# Altium footprint library Diod.PcbLib: 392 footprints (part 11 of 25)
Each footprint in its own frame and in the unit in brackets; x right, y up, seen from the top. Pads: shape width x height; smd on the part's side, far side on the other; paste and mask are expansions set on the pad; w line width, h text height; cw(c..) or ccw(c..) is an arc to the next point about the centre after c.
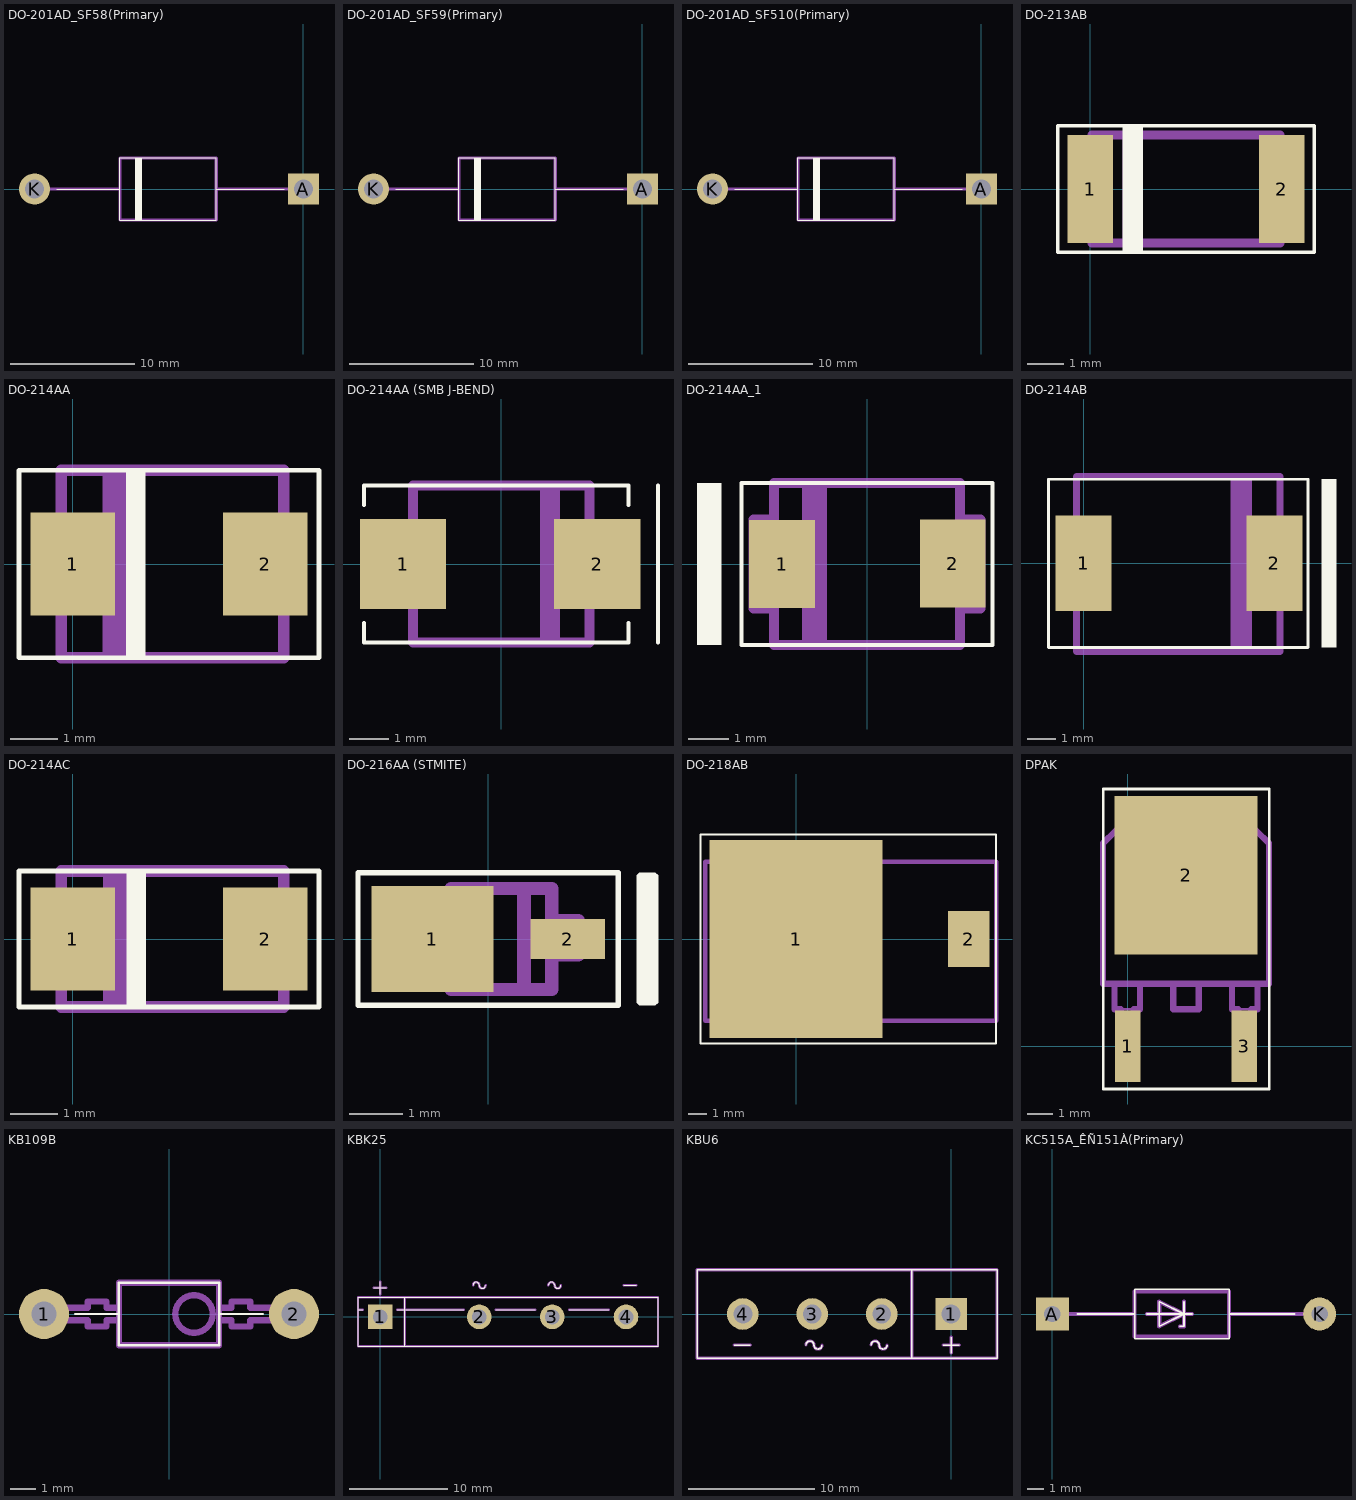
[diagram p10: the footprints below, top view; thin cyan lines are the x and y axes]

## DO-201AD_SF58(Primary) [mm]
pads (2):
  rect 2.5x2.5 hole 1.5: A(0,0)
  round 2.5 hole 1.5: K(-21.6,0)
Top Overlay:
  region: -13.5,2.5 -13.5,-2.5 -13,-2.5 -13,2.5
  lines w0.1: -19.812,0 -14.75,0 ; -7,0 -1.524,0 ; -14.75,0 -14.75,2.5 -7,2.5 -7,-2.5 -14.75,-2.5 -14.75,0
Mechanical 1:
  region: -13.5,2.5 -13.5,-2.5 -13,-2.5 -13,2.5
  lines w0.25: -21.6,0 -14.75,0 ; -7,0 0,0 ; -14.75,0 -14.75,2.5 -7,2.5 -7,-2.5 -14.75,-2.5 -14.75,0

## DO-201AD_SF59(Primary) [mm]
pads (2):
  rect 2.5x2.5 hole 1.5: A(0,0)
  round 2.5 hole 1.5: K(-21.6,0)
Top Overlay:
  region: -13.5,2.5 -13.5,-2.5 -13,-2.5 -13,2.5
  lines w0.1: -19.812,0 -14.75,0 ; -7,0 -1.524,0 ; -14.75,0 -14.75,2.5 -7,2.5 -7,-2.5 -14.75,-2.5 -14.75,0
Mechanical 1:
  region: -13.5,2.5 -13.5,-2.5 -13,-2.5 -13,2.5
  lines w0.25: -21.6,0 -14.75,0 ; -7,0 0,0 ; -14.75,0 -14.75,2.5 -7,2.5 -7,-2.5 -14.75,-2.5 -14.75,0

## DO-201AD_SF510(Primary) [mm]
pads (2):
  rect 2.5x2.5 hole 1.5: A(0,0)
  round 2.5 hole 1.5: K(-21.6,0)
Top Overlay:
  region: -13.5,2.5 -13.5,-2.5 -13,-2.5 -13,2.5
  lines w0.1: -19.812,0 -14.75,0 ; -7,0 -1.524,0 ; -14.75,0 -14.75,2.5 -7,2.5 -7,-2.5 -14.75,-2.5 -14.75,0
Mechanical 1:
  region: -13.5,2.5 -13.5,-2.5 -13,-2.5 -13,2.5
  lines w0.25: -21.6,0 -14.75,0 ; -7,0 0,0 ; -14.75,0 -14.75,2.5 -7,2.5 -7,-2.5 -14.75,-2.5 -14.75,0

## DO-213AB [mm]
pads (2):
  rect 1.25x3 smd: 1(0,0) 2(5.3,0)
Top Overlay:
  region: 0.9,1.75 0.9,-1.75 1.45,-1.75 1.45,1.75
  lines w0.1: -0.9,-1.75 6.2,-1.75 6.2,1.75 -0.9,1.75 -0.9,-1.75
Mechanical 1:
  region: 0.9,-1.5 1.45,-1.5 1.45,1.5 0.9,1.5
  lines w0.25: 0.05,-1.5 5.25,-1.5 5.25,1.5 0.05,1.5 0.05,-1.5

## DO-214AA [mm]
pads (2):
  rect 1.8x2.2 smd: 1(0,0) 2(4.1,0)
Top Overlay:
  region: 1.54,-2 1.54,2 1.14,2 1.14,-2
  lines w0.1: -1.15,-2 5.25,-2 5.25,2 -1.15,2 -1.15,-2
Mechanical 1:
  region: 0.64,-2 1.29,-2 1.29,2 0.64,2
  lines w0.25: -0.25,-2 4.5,-2 4.5,2 -0.25,2 -0.25,-2

## DO-214AA (SMB J-BEND) [mm]
pads (2):
  rect 2.2x2.3 smd: 1(-2.5,0) 2(2.45,0)
Top Overlay:
  lines w0.1: -3.5,-1.5 -3.5,-2 3.25,-2 3.25,-1.5 ; -3.5,1.5 -3.5,2 3.25,2 3.25,1.5 ; 4,-2 4,2
Mechanical 1:
  region: 1,-2 1.5,-2 1.5,2 1,2
  lines w0.25: -2.25,-2 2.25,-2 2.25,2 -2.25,2 -2.25,-2

## DO-214AA_1 [mm]
pads (2):
  rect 1.62x2.18 smd: 1(-2.11,0) 2(2.11,0.01)
Top Overlay:
  region: -4.21,2 -4.21,-2 -3.61,-2 -3.61,2
  lines w0.1: -3.11,-2 1.19,-2 3.09,-2 3.09,2 -3.11,2 -3.11,-2
Mechanical 1:
  region: -1.61,-2 -1.01,-2 -1.01,2 -1.61,2
  lines w0.25: -2.31,-1.1 -2.81,-1.1 -2.81,1.1 -2.31,1.1 ; 2.29,-1.1 2.79,-1.1 2.79,1.1 2.29,1.1 ; -2.31,-2 2.29,-2 2.29,2 -2.31,2 -2.31,-2

## DO-214AB [mm]
pads (2):
  rect 2x3.4 smd: 1(0,0) 2(6.8,0)
Top Overlay:
  region: 8.5,3 8.5,-3 9,-3 9,3
  lines w0.1: -1.25,-3 8,-3 8,3 -1.25,3 -1.25,-3
Mechanical 1:
  region: 5.25,3 5.25,-3 6,-3 6,3
  lines w0.25: -0.25,-3.15 7,-3.15 7,3.1 -0.25,3.1 -0.25,-3.15

## DO-214AC [mm]
pads (2):
  rect 1.8x2.2 smd: 1(0,0) 2(4.1,0)
Top Overlay:
  region: 1.55,-1.45 1.55,1.45 1.15,1.45 1.15,-1.45
  lines w0.1: -1.15,-1.45 5.25,-1.45 5.25,1.45 -1.15,1.45 -1.15,-1.45
Mechanical 1:
  region: 0.65,-1.45 1.3,-1.45 1.3,1.45 0.65,1.45
  lines w0.25: -0.25,-1.45 4.5,-1.45 4.5,1.45 -0.25,1.45 -0.25,-1.45

## DO-216AA (STMITE) [mm]
pads (2):
  rect 2.3x2 smd: 1(-1.05,0)
  rect 1.4x0.75 smd: 2(1.5,0)
Top Overlay:
  region: 2.8,-1.2 2.85,-1.25 3.15,-1.25 3.2,-1.2 3.2,1.2 3.15,1.25 2.85,1.25 2.8,1.2
  lines w0.1: -2.45,-1.25 2.45,-1.25 2.45,1.25 -2.45,1.25 -2.45,-1.25
Mechanical 1:
  region: 0.55,-0.9 0.6,-0.95 0.75,-0.95 0.8,-0.9 0.8,0.9 0.75,0.95 0.6,0.95 0.55,0.9
  lines w0.25: -0.7,-0.5 -1.45,-0.5 -1.45,0.5 -0.7,0.5 ; 1.2,-0.3 1.7,-0.3 1.7,0.35 1.2,0.35 ; -0.7,-0.95 1.2,-0.95 1.2,0.95 -0.7,0.95 -0.7,-0.95

## DO-218AB [mm]
pads (2):
  rect 9.5x10.9 smd: 1(0,0)
  rect 2.3x3.1 smd: 2(9.5,0)
Top Overlay:
  lines w0.1: -5.25,-5.75 11,-5.75 11,5.75 -5.25,5.75 -5.25,-5.75
Mechanical 1:
  lines w0.25: -5,-4.5 11,-4.5 11,4.25 -5,4.25 -5,-4.5

## DPAK [mm]
pads (3):
  rect 1x2.8 smd: 1(0,0) 3(4.56,0)
  rect 5.6x6.2 smd: 2(2.28,6.7)
Top Overlay:
  lines w0.1: -0.96,-1.67 -0.96,10.08 5.54,10.08 5.54,-1.67 -0.71,-1.67 -0.96,-1.67
Mechanical 1:
  lines w0.1: -0.52,1.45 0.48,1.45 ; -0.27,-0.05 0.23,-0.05 ; 4.08,1.45 5.08,1.45 ; 4.33,-0.05 4.83,-0.05
  lines w0.25: -0.52,2.45 -0.52,1.45 -0.27,1.45 -0.27,-0.8 0.23,-0.8 0.23,1.45 0.48,1.45 0.48,2.45 ; -0.22,8.45 -0.22,8.95 0.03,9.2 1.53,9.2 1.53,8.95 3.03,8.95 3.03,9.2 4.53,9.2 4.78,8.95 4.78,8.45 ; 1.78,2.45 1.78,1.45 2.78,1.45 2.78,2.45 ; 4.08,2.45 4.08,1.45 4.33,1.45 4.33,-0.8 4.83,-0.8 4.83,1.45 5.08,1.45 5.08,2.45 ; -0.97,2.45 5.53,2.45 5.53,7.95 5.03,8.45 -0.47,8.45 -0.97,7.95 -0.97,2.45

## KB109B [mm]
pads (2):
  round 2 hole 1: 1(-5,0) 2(5,0)
Top Overlay:
  lines w0.1: -3.75,0 -2,0 ; 2,0 3.75,0 ; -2,-1.25 2,-1.25 2,1.25 -2,1.25 -2,-1.25
Mechanical 1:
  lines w0.25: -2,-0.25 -2.5,-0.25 -2.5,-0.5 -3.25,-0.5 -3.25,-0.25 -5,-0.25 -5,0.25 -3.25,0.25 -3.25,0.5 -2.5,0.5 -2.5,0.25 -2,0.25 ; 2,-0.25 2.5,-0.25 2.5,-0.5 3.25,-0.5 3.25,-0.25 5,-0.25 5,0.25 3.25,0.25 3.25,0.5 2.5,0.5 2.5,0.25 2,0.25 ; -2,-1.25 2,-1.25 2,1.25 -2,1.25 -2,-1.25 ; 0.25,0 ccw(c1,0) 1.75,0 ccw(c1,0) 0.25,0

## KBK25 [mm]
pads (4):
  rect 2.5x2.5 hole 1.5: 1(0,0)
  round 2.5 hole 1.5: 2(10.08,0) 3(17.5,0) 4(25,0)
Top Overlay:
  lines w0.1: -2.25,0.75 -1.75,0.75 ; -0.635,2.96 0.635,2.96 ; 0,2.325 0,3.595 ; 1.75,0.75 8.5,0.75 ; 2.5,-3 2.5,2 ; 9.445,3.21 cw(c9.763,3.21) 10.08,3.21 ccw(c10.398,3.21) 10.715,3.21 ; 11.75,0.75 15.75,0.75 ; 17.105,3.21 cw(c17.423,3.21) 17.74,3.21 ccw(c18.058,3.21) 18.375,3.21 ; 19.25,0.75 23.25,0.75 ; 24.775,3.21 26.045,3.21 ; -2.25,-3 28.25,-3 28.25,2 -2.25,2 -2.25,-3
Mechanical 1:
  lines w0.25: -2.25,0.75 -1.75,0.75 ; 1.75,0.75 8.5,0.75 ; 2.5,-3 2.5,2 ; 11.75,0.75 15.75,0.75 ; 19.25,0.75 23.25,0.75 ; 10.08,3.21 ccw(c10.398,3.21) 10.715,3.21 cw(c10.398,3.21) 10.08,3.21 ; 10.08,3.21 ccw(c9.763,3.21) 9.445,3.21 cw(c9.763,3.21) 10.08,3.21 ; 17.74,3.21 ccw(c17.423,3.21) 17.105,3.21 cw(c17.423,3.21) 17.74,3.21 ; 17.74,3.21 ccw(c18.058,3.21) 18.375,3.21 cw(c18.058,3.21) 17.74,3.21 ; -2.25,-3 28.25,-3 28.25,2 -2.25,2 -2.25,-3 ; -0.635,2.96 0.635,2.96 -0.635,2.96 ; 0,2.325 0,3.595 0,2.325 ; 24.775,3.21 26.045,3.21 24.775,3.21

## KBU6 [mm]
pads (4):
  rect 2.5x2.5 hole 1.5: 1(0,0)
  round 2.5 hole 1.5: 2(-5.5,0) 3(-11,0) 4(-16.5,0)
Top Overlay:
  lines w0.1: -17.17,-2.46 -15.9,-2.46 ; -11.5,-2.46 cw(c-11.182,-2.46) -10.865,-2.46 ccw(c-10.547,-2.46) -10.23,-2.46 ; -6.34,-2.46 cw(c-6.023,-2.46) -5.705,-2.46 ccw(c-5.388,-2.46) -5.07,-2.46 ; -3.125,-3.5 -3.125,3.5 ; -0.635,-2.46 0.635,-2.46 ; 0,-3.095 0,-1.825 ; -20.125,-3.5 3.625,-3.5 3.625,3.5 -20.125,3.5 -20.125,-3.5
Mechanical 1:
  lines w0.25: -17.17,-2.46 -15.9,-2.46 ; -11.5,-2.46 cw(c-11.182,-2.46) -10.865,-2.46 ccw(c-10.547,-2.46) -10.23,-2.46 ; -6.34,-2.46 cw(c-6.023,-2.46) -5.705,-2.46 ccw(c-5.388,-2.46) -5.07,-2.46 ; -3.125,-3.5 -3.125,3.5 ; -0.635,-2.46 0.635,-2.46 ; 0,-3.095 0,-1.825 ; -20.125,-3.5 3.625,-3.5 3.625,3.5 -20.125,3.5 -20.125,-3.5

## KC515A_ÊÑ151À(Primary) [mm]
pads (2):
  rect 2x2 hole 1: A(0,0)
  round 2 hole 1: K(16.25,0)
Top Overlay:
  lines w0.1: 1.5,0 5,0 ; 5.75,0 8.5,0 ; 7.75,-0.75 8,-0.75 8,0.75 ; 10.75,0 14.75,0 ; 5,0 5,1.5 10.75,1.5 10.75,-1.5 5,-1.5 5,0 ; 6.5,-0.75 8,0 6.5,0.75 6.5,-0.75
Mechanical 1:
  lines w0.25: 0,0 5,0 ; 5.75,0 8.5,0 ; 7.75,-0.75 8,-0.75 8,0.75 ; 10.75,0 16.25,0 ; 5,-1.375 10.75,-1.375 10.75,1.375 5,1.375 5,-1.375 ; 6.5,-0.75 8,0 6.5,0.75 6.5,-0.75